# EAGLE library part 16 (library Connectors > Header)
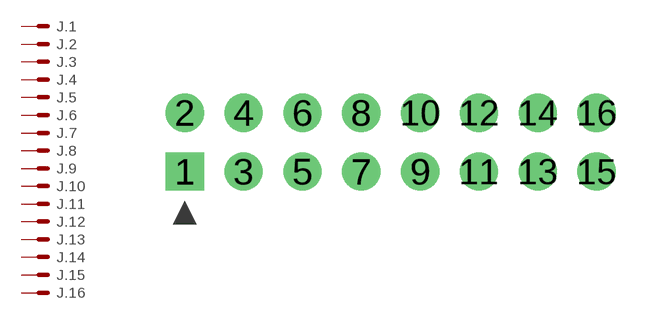
[diagram p1: symbol with the pads of 2X8_2.54; footprint 2X8_2.54]

Designator prefix J; gates .1=K .2=K .3=K .4=K .5=K .6=K .7=K .8=K .9=K .10=K .11=K .12=K .13=K .14=K .15=K .16=K

## 16  [2X8_2.54]
1  .1:S  pas
2  .2:S  pas
3  .3:S  pas
4  .4:S  pas
5  .5:S  pas
6  .6:S  pas
7  .7:S  pas
8  .8:S  pas
9  .9:S  pas
10  .10:S  pas
11  .11:S  pas
12  .12:S  pas
13  .13:S  pas
14  .14:S  pas
15  .15:S  pas
16  .16:S  pas

## Footprint 2X8_2.54 (pad centres in mm)
drill 1.1 square: 1 -8.89,-1.27
drill 1.1: 2 -8.89,1.27; 3 -6.35,-1.27; 4 -6.35,1.27; 5 -3.81,-1.27; 6 -3.81,1.27; 7 -1.27,-1.27; 8 -1.27,1.27; 9 1.27,-1.27; 10 1.27,1.27; 11 3.81,-1.27; 12 3.81,1.27; 13 6.35,-1.27; 14 6.35,1.27; 15 8.89,-1.27; 16 8.89,1.27